# EAGLE library part _44PIN_Z8FXX21 (library Zilog-Z8-Encore-v1_2)
Z8 Encore, LQFP-44 /PLCC-44 Packages
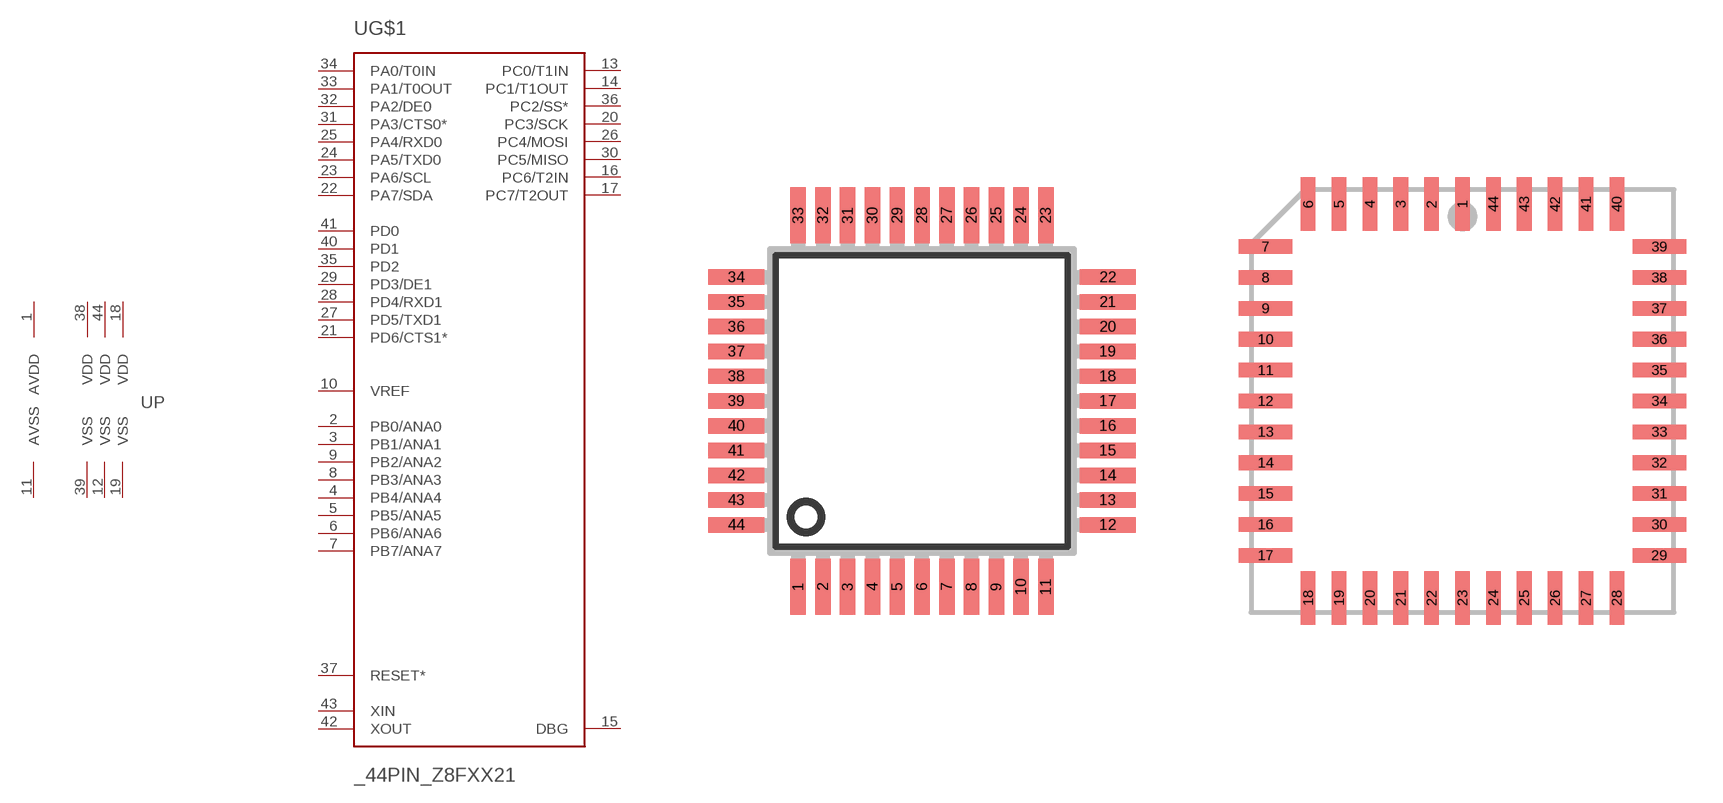
[diagram p3: symbol with the pads of SQFP-S-10X10-44; footprints SQFP-S-10X10-44, PLCC44S]

Designator prefix U; gates G$1=Z8FXX21 P=PWR_44-PIN

## _44PIN_Z8FXX21AN  [SQFP-S-10X10-44]
1  P:AVDD  pwr
2  G$1:PB0/ANA0
3  G$1:PB1/ANA1
4  G$1:PB4/ANA4
5  G$1:PB5/ANA5
6  G$1:PB6/ANA6
7  G$1:PB7/ANA7
8  G$1:PB3/ANA3
9  G$1:PB2/ANA2
10  G$1:VREF  pas
11  P:AVSS  pwr
12  P:VSS  pwr
13  G$1:PC0/T1IN
14  G$1:PC1/T1OUT
15  G$1:DBG
16  G$1:PC6/T2IN
17  G$1:PC7/T2OUT
18  P:VDD  pwr
19  P:VSS  pwr
20  G$1:PC3/SCK
21  G$1:PD6/CTS1*
22  G$1:PA7/SDA
23  G$1:PA6/SCL
24  G$1:PA5/TXD0
25  G$1:PA4/RXD0
26  G$1:PC4/MOSI
27  G$1:PD5/TXD1
28  G$1:PD4/RXD1
29  G$1:PD3/DE1
30  G$1:PC5/MISO
31  G$1:PA3/CTS0*
32  G$1:PA2/DE0
33  G$1:PA1/T0OUT
34  G$1:PA0/T0IN
35  G$1:PD2
36  G$1:PC2/SS*
37  G$1:RESET*  in
38  P:VDD  pwr
39  P:VSS  pwr
40  G$1:PD1
41  G$1:PD0
42  G$1:XOUT  out
43  G$1:XIN  in
44  P:VDD  pwr

## _44PIN_Z8FXX21VN  [PLCC44S]
1  G$1:PD4/RXD1
2  G$1:PD3/DE1
3  G$1:PC5/MISO
4  G$1:PA3/CTS0*
5  G$1:PA2/DE0
6  G$1:PA1/T0OUT
7  G$1:PA0/T0IN
8  G$1:PD2
9  G$1:PC2/SS*
10  G$1:RESET*  in
11  P:VDD  pwr
12  P:VSS  pwr
13  G$1:PD1
14  G$1:PD0
15  G$1:XOUT  out
16  G$1:XIN  in
17  P:VDD  pwr
18  P:AVDD  pwr
19  G$1:PB0/ANA0
20  G$1:PB1/ANA1
21  G$1:PB4/ANA4
22  G$1:PB5/ANA5
23  G$1:PB6/ANA6
24  G$1:PB7/ANA7
25  G$1:PB3/ANA3
26  G$1:PB2/ANA2
27  G$1:VREF  pas
28  P:AVSS  pwr
29  P:VSS  pwr
30  G$1:PC0/T1IN
31  G$1:PC1/T1OUT
32  G$1:DBG
33  G$1:PC6/T2IN
34  G$1:PC7/T2OUT
35  P:VDD  pwr
36  P:VSS  pwr
37  G$1:PC3/SCK
38  G$1:PD6/CTS1*
39  G$1:PA7/SDA
40  G$1:PA6/SCL
41  G$1:PA5/TXD0
42  G$1:PA4/RXD0
43  G$1:PC4/MOSI
44  G$1:PD5/TXD1

## _44PIN_Z8FXX21VN-SMS  [PLCCSM44]
Pads as for PLCC44S

## _44PIN_Z8FXX21VN-THS  [PLCC-S44]
Pads as for PLCC44S

## Footprint SQFP-S-10X10-44 (pad centres in mm)
LQFP-44 shrink quad flat pack, square
smd 0.5 x 1.8: 1 -4,-6; 2 -3.2,-6; 3 -2.4,-6; 4 -1.6,-6; 5 -0.8,-6; 6 0,-6; 7 0.8,-6; 8 1.6,-6; 9 2.4,-6; 10 3.2,-6; 11 4,-6; 23 4,6; 24 3.2,6; 25 2.4,6; 26 1.6,6; 27 0.8,6; 28 0,6; 29 -0.8,6; 30 -1.6,6; 31 -2.4,6; 32 -3.2,6; 33 -4,6
smd 1.8 x 0.5: 12 6,-4; 13 6,-3.2; 14 6,-2.4; 15 6,-1.6; 16 6,-0.8; 17 6,0; 18 6,0.8; 19 6,1.6; 20 6,2.4; 21 6,3.2; 22 6,4; 34 -6,4; 35 -6,3.2; 36 -6,2.4; 37 -6,1.6; 38 -6,0.8; 39 -6,0; 40 -6,-0.8; 41 -6,-1.6; 42 -6,-2.4; 43 -6,-3.2; 44 -6,-4

## Footprint PLCC44S (pad centres in mm)
PLCC-44
smd 0.6 x 2.2: 1 0,8.1; 2 -1.27,8.1; 3 -2.54,8.1; 4 -3.81,8.1; 5 -5.08,8.1; 6 -6.35,8.1; 18 -6.35,-8.1; 19 -5.08,-8.1; 20 -3.81,-8.1; 21 -2.54,-8.1; 22 -1.27,-8.1; 23 0,-8.1; 24 1.27,-8.1; 25 2.54,-8.1; 26 3.81,-8.1; 27 5.08,-8.1; 28 6.35,-8.1; 40 6.35,8.1; 41 5.08,8.1; 42 3.81,8.1; 43 2.54,8.1; 44 1.27,8.1
smd 2.2 x 0.6: 7 -8.1,6.35; 8 -8.1,5.08; 9 -8.1,3.81; 10 -8.1,2.54; 11 -8.1,1.27; 12 -8.1,0; 13 -8.1,-1.27; 14 -8.1,-2.54; 15 -8.1,-3.81; 16 -8.1,-5.08; 17 -8.1,-6.35; 29 8.1,-6.35; 30 8.1,-5.08; 31 8.1,-3.81; 32 8.1,-2.54; 33 8.1,-1.27; 34 8.1,0; 35 8.1,1.27; 36 8.1,2.54; 37 8.1,3.81; 38 8.1,5.08; 39 8.1,6.35

## Footprint PLCCSM44 (pad centres in mm)
PLCC-44 Surface-Mount Socket
smd 0.66 x 2.591: 1 0,8.89; 2 -1.27,8.89; 3 -2.54,8.89; 4 -3.81,8.89; 5 -5.08,8.89; 6 -6.35,8.89; 18 -6.35,-8.89; 19 -5.08,-8.89; 20 -3.81,-8.89; 21 -2.54,-8.89; 22 -1.27,-8.89; 23 0,-8.89; 24 1.27,-8.89; 25 2.54,-8.89; 26 3.81,-8.89; 27 5.08,-8.89; 28 6.35,-8.89; 40 6.35,8.89; 41 5.08,8.89; 42 3.81,8.89; 43 2.54,8.89; 44 1.27,8.89
smd 2.591 x 0.66: 7 -8.89,6.35; 8 -8.89,5.08; 9 -8.89,3.81; 10 -8.89,2.54; 11 -8.89,1.27; 12 -8.89,0; 13 -8.89,-1.27; 14 -8.89,-2.54; 15 -8.89,-3.81; 16 -8.89,-5.08; 17 -8.89,-6.35; 29 8.89,-6.35; 30 8.89,-5.08; 31 8.89,-3.81; 32 8.89,-2.54; 33 8.89,-1.27; 34 9.017,0; 35 8.89,1.27; 36 8.89,2.54; 37 8.89,3.81; 38 8.89,5.08; 39 8.89,6.35

## Footprint PLCC-S44 (pad centres in mm)
PLCC-44 Thru-Hole Socket
drill 0.813 round: 1 1.27,6.35
drill 0.813 octagon: 2 -1.27,8.89; 3 -1.27,6.35; 4 -3.81,8.89; 5 -3.81,6.35; 6 -6.35,8.89; 7 -8.89,6.35; 8 -6.35,6.35; 9 -8.89,3.81; 10 -6.35,3.81; 11 -8.89,1.27; 12 -6.35,1.27; 13 -8.89,-1.27; 14 -6.35,-1.27; 15 -8.89,-3.81; 16 -6.35,-3.81; 17 -8.89,-6.35; 18 -6.35,-8.89; 19 -6.35,-6.35; 20 -3.81,-8.89; 21 -3.81,-6.35; 22 -1.27,-8.89; 23 -1.27,-6.35; 24 1.27,-8.89; 25 1.27,-6.35; 26 3.81,-8.89; 27 3.81,-6.35; 28 6.35,-8.89; 29 8.89,-6.35; 30 6.35,-6.35; 31 8.89,-3.81; 32 6.35,-3.81; 33 8.89,-1.27; 34 6.35,-1.27; 35 8.89,1.27; 36 6.35,1.27; 37 8.89,3.81; 38 6.35,3.81; 39 8.89,6.35; 40 6.35,8.89; 41 6.35,6.35; 42 3.81,8.89; 43 3.81,6.35; 44 1.27,8.89